# EAGLE library part SBH41-NBPB-D08-ST (library con-sullins)
HEADER
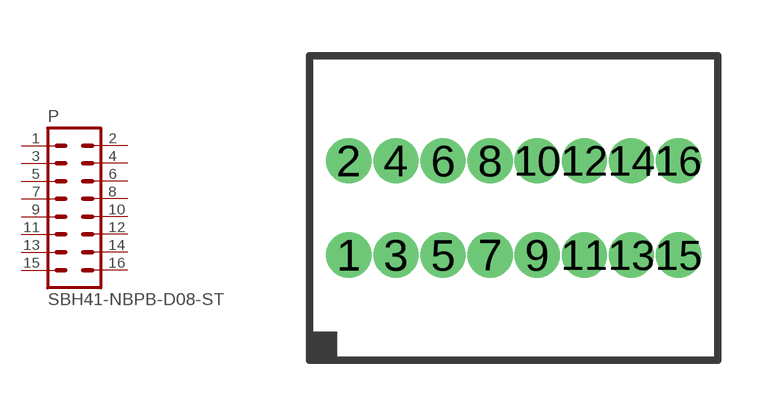
[diagram p61: symbol with the pads of SBH41-NBPB-D08-ST; footprint SBH41-NBPB-D08-ST]

Designator prefix P

## SBH41-NBPB-D08-ST  [SBH41-NBPB-D08-ST]
1  1  pas
2  2  pas
3  3  pas
4  4  pas
5  5  pas
6  6  pas
7  7  pas
8  8  pas
9  9  pas
10  10  pas
11  11  pas
12  12  pas
13  13  pas
14  14  pas
15  15  pas
16  16  pas

## Footprint SBH41-NBPB-D08-ST (pad centres in mm)
HEADER
drill 0.711: 1 -4.445,-1.27; 2 -4.445,1.27; 3 -3.175,-1.27; 4 -3.175,1.27; 5 -1.905,-1.27; 6 -1.905,1.27; 7 -0.635,-1.27; 8 -0.635,1.27; 9 0.635,-1.27; 10 0.635,1.27; 11 1.905,-1.27; 12 1.905,1.27; 13 3.175,-1.27; 14 3.175,1.27; 15 4.445,-1.27; 16 4.445,1.27